# Altium schematic symbol library LoRa_stm32.SCHLIB: 14 symbols
Pins are listed as number, name and electrical type; pins without a type are passive.

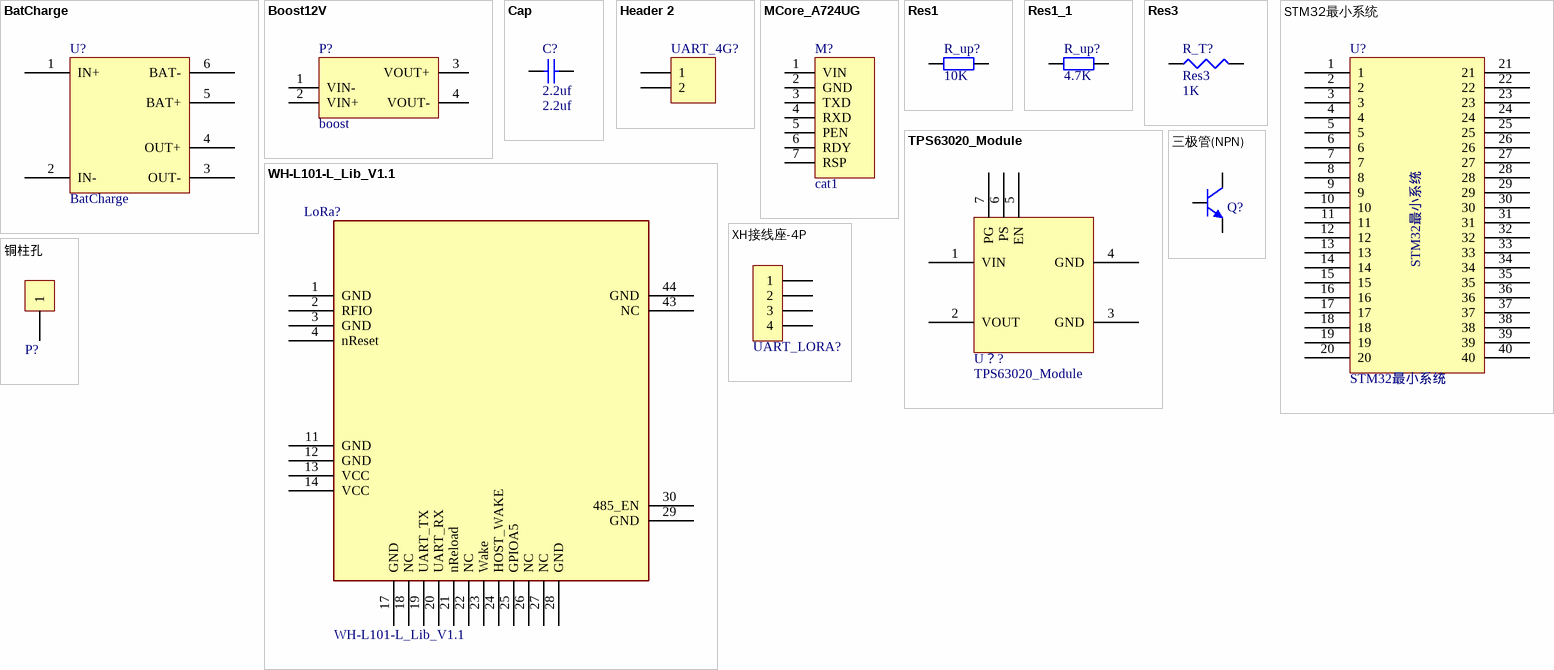
[diagram p0: symbols BatCharge to 铜柱孔]

## BatCharge
designator U?
电池充电模块
footprint Bat_Charge (充电模块)
pins: 1 IN+, 2 IN-, 3 OUT-, 4 OUT+, 5 BAT+, 6 BAT-

## Boost12V
designator P?, comment boost
锂电池升压至5/8/9/12V
footprint 锂电池升压 (升压至5/8/9/12V)
pins: 1 VIN-, 2 VIN+, 3 VOUT+, 4 VOUT-

## Cap
designator C?, comment 2.2uf
Capacitor; Published: 8-Jun-2000; LatestRevisionDate: 17-Jul-2002; LatestRevisionNote: Re-released for DXP Platform.; PackageReference: RAD-0.3; Publisher: Altium Limited; PackageDescription: Radial Cap, Thru-Hole; 2 Leads; 0.3 in Pin Spacing; Value: 2.2uf
simulation model CAP (Capacitor)
signal-integrity model Cap
footprint 0603-C
pins: 1, 2

## Header 2
designator UART_4G?, comment UART_4G  (value not drawn)
Header, 2-Pin; LatestRevisionDate: 17-Jul-2002; LatestRevisionNote: Re-released for DXP Platform.; Publisher: Altium Limited
footprint HDR1X2 (Connector; Header; 2 Position)
signal-integrity model Connector
pins: 1, 2

## MCore_A724UG
designator M?, comment cat1
4G透传模块
footprint MCore724
pins: 1 VIN, 2 GND, 3 TXD, 4 RXD, 5 PEN, 6 RDY, 7 RSP

## Res1
designator R_up?, comment 10K
贴片电阻; Published: 8-Jun-2000; LatestRevisionDate: 17-Jul-2002; LatestRevisionNote: Re-released for DXP Platform.; PackageReference: AXIAL-0.4; Publisher: Altium Limited; Value: 10K
footprint 0603-R
pins: 1, 2

## Res1_1
designator R_up?, comment value 4.7K  (hidden comment: 10K)
贴片电阻; Published: 8-Jun-2000; LatestRevisionDate: 17-Jul-2002; LatestRevisionNote: Re-released for DXP Platform.; PackageReference: AXIAL-0.4; Publisher: Altium Limited
footprint 0603-R
pins: 1, 2

## Res3
designator R_T?  value 1K
Resistor; Published: 8-Jun-2000; LatestRevisionDate: 29-May-2009; LatestRevisionNote: IPC-7351 Footprint Added.; PackageReference: J1-0603; Publisher: Altium Limited; PackageDescription: Chip Resistor
footprint J1-0603 (Chip Resistor, Body 1.6x0.8mm, IPC High Density)
footprint 14-1210 (Chip Resistor, Body 3.2x2.5mm, IPC High Density)
footprint 12Z-2010 (Chip Resistor, Body 5.0x2.5mm, IPC High Density)
footprint RESC6332 (Chip Resistor, Body 6.3x3.2mm, IPC High Density)
simulation model RESISTOR (Resistor)
signal-integrity model Res
pins: 1, 2

## STM32最小系统
designator U?
footprint STM32最小系统
pins: 1, 2, 3, 4, 5, 6, 7, 8, 9, 10, 11, 12, 13, 14, 15, 16, 17, 18, 19, 20, 21, 22, 23, 24, 25, 26, 27, 28, 29, 30, 31, 32, 33, 34, 35, 36, 37, 38, 39, 40

## TPS63020_Module
designator U？?
升压模块模块
footprint TP63020_MODULE (升压模块)
pins: 1 VIN, 2 VOUT, 3 GND, 4 GND, 5 EN, 6 PS, 7 PG

## WH-L101-L_Lib_V1.1
designator LoRa?
footprint SMD-44_18.22X26.65X1.27P
pins: 1 GND, 2 RFIO, 3 GND, 4 nReset, 11 GND, 12 GND, 13 VCC, 14 VCC, 17 GND, 18 NC, 19 UART_TX, 20 UART_RX, 21 nReload, 22 NC, 23 Wake, 24 HOST_WAKE, 25 GPIOA5, 26 NC, 27 NC, 28 GND, 29 GND, 30 485_EN, 43 NC, 44 GND

## XH接线座-4P
designator UART_LORA?  (value not drawn)
footprint HDR1X4 (Connector; Header; 4 Position)
footprint HDR1X4 (Connector; Header; 4 Position)
footprint HDR1X4 (Connector; Header; 4 Position)
pins: 1, 2, 3, 4

## 三极管(NPN)
designator Q?  (value not drawn)
footprint TO-92
pins: 1 E, 2 B, 3 C

## 铜柱孔
designator P?  (value not drawn)
footprint 铜柱孔
footprint 铜柱孔3.00
pins: 1